# Altium footprint library X 线路板空板.PCBLIB: 1 footprints
Each footprint in its own frame and in the unit in brackets; x right, y up, seen from the top. Pads: shape width x height; smd on the part's side, far side on the other; paste and mask are expansions set on the pad; w line width, h text height; cw(c..) or ccw(c..) is an arc to the next point about the centre after c.
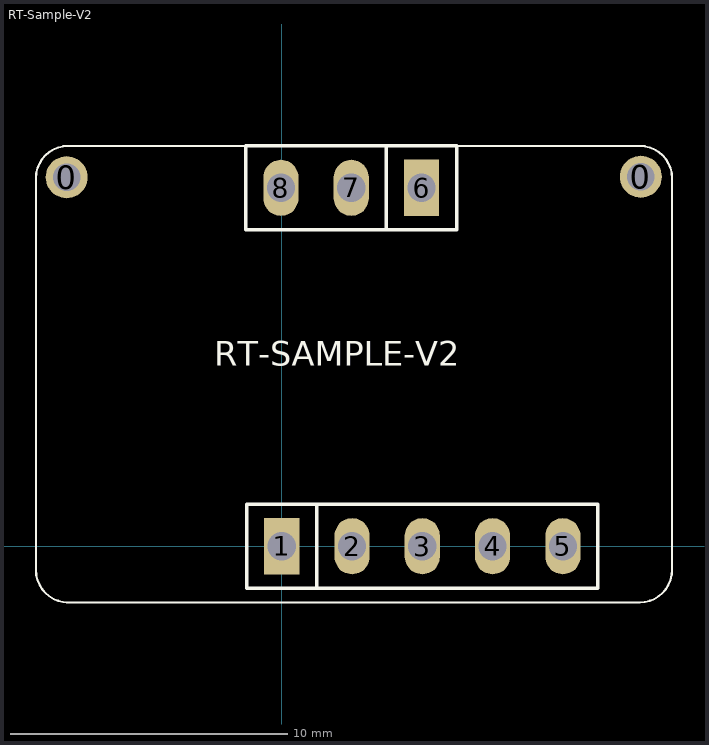
[diagram p0: the footprint, top view; thin cyan lines are the x and y axes]

## RT-Sample-V2 [mil] "AD采样板"
pads (10):
  round 60 hole 39.37: 0(-306.1,525.1) 0(511,525.8)
  rect 50x80 hole 40: 1(0,0) 6(198.9,510.1)
  oval 50x80 hole 40: 2(100,0) 3(200,0) 4(300,0) 5(400,0) 7(98.9,510.1) 8(-1.1,510.1)
Top Overlay:
  lines w3: -306.1,-79.9 509.41,-79.9 ccw(c509.41,-33.8) 555.51,-33.8 555.51,523.61 ; -303.9,-79.9 cw(c-303.9,-33.8) -350,-33.8 -350,523.61 cw(c-303.9,523.61) -303.9,569.7 509.51,569.7 cw(c509.51,523.61) 555.61,523.61
  lines w5: 50,-60 50,60 ; 148.9,450.1 148.9,570.1 ; -51.1,450.1 -51.1,570.1 248.9,570.1 248.9,450.1 -51.1,450.1 ; -50,-60 -50,60 450,60 450,-60 -50,-60
  text "RT-SAMPLE-V2" at -96.1,245.1 h60